# Altium footprint library ARM board1.PcbLib: 27 footprints (part 2 of 2)
Each footprint in its own frame and in the unit in brackets; x right, y up, seen from the top. Pads: shape width x height; smd on the part's side, far side on the other; paste and mask are expansions set on the pad; w line width, h text height; cw(c..) or ccw(c..) is an arc to the next point about the centre after c.
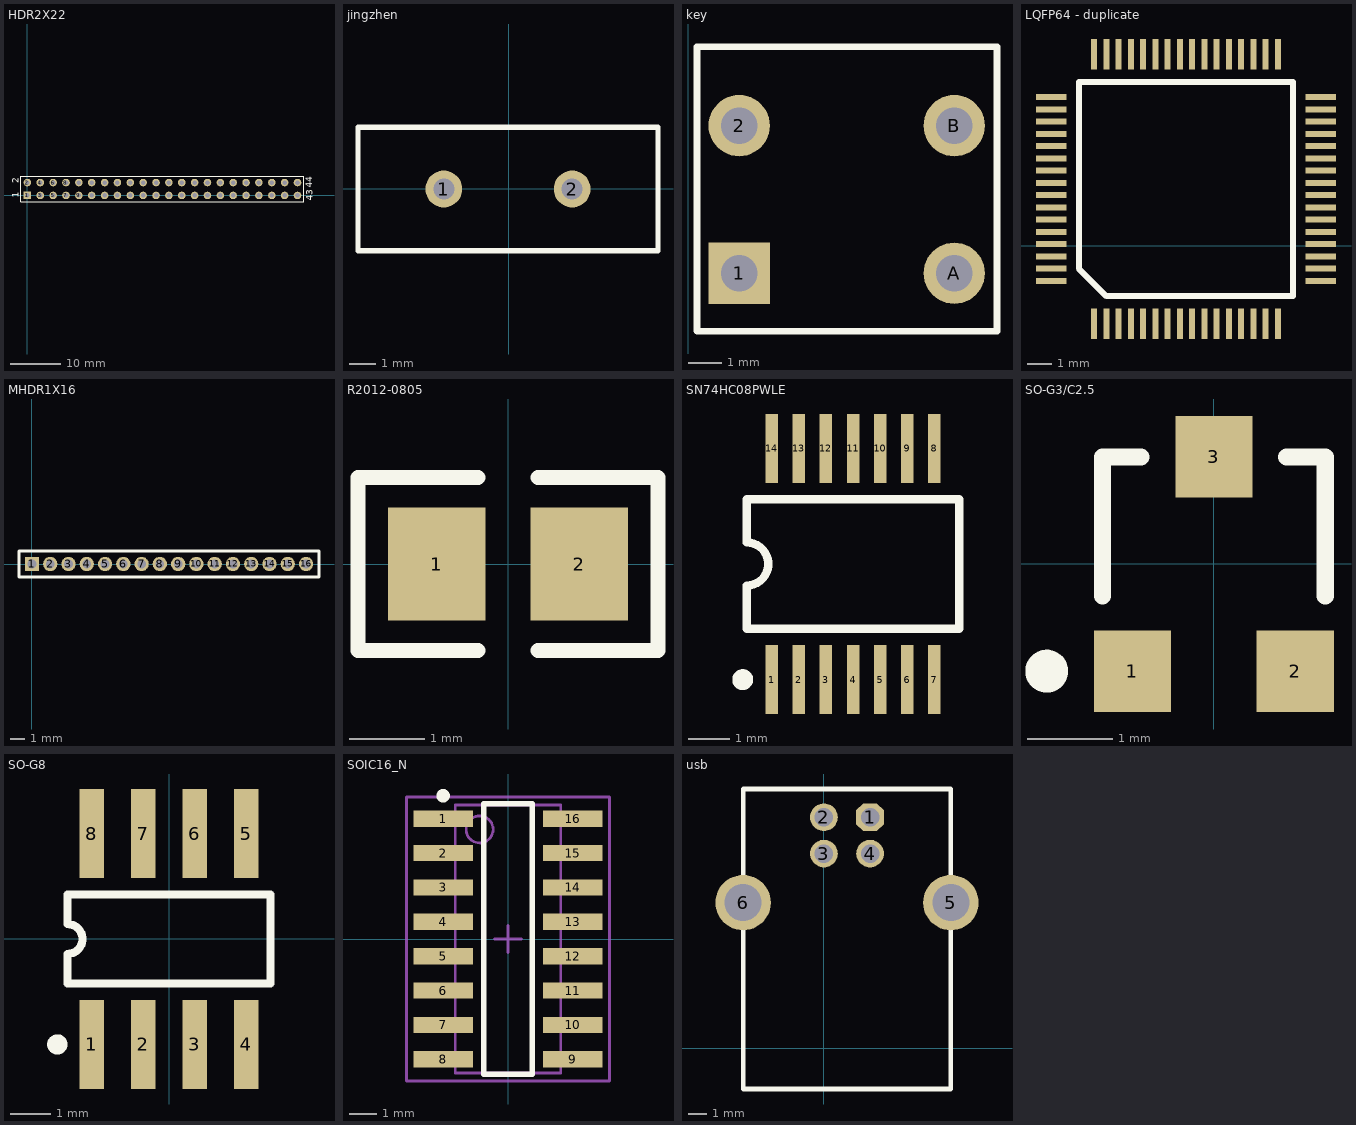
[diagram p1: the footprints below, top view; thin cyan lines are the x and y axes]

## HDR2X22 [mm] "Connector; Header; 22x2 Position"
pads (44):
  rect 1.5x1.5 hole 0.9: 1(0,0)
  round 1.5 hole 0.9: 2(0,2.54) 3(2.54,0) 4(2.54,2.54) 5(5.08,0) 6(5.08,2.54) 7(7.62,0) 8(7.62,2.54) 9(10.16,0) 10(10.16,2.54) 11(12.7,0) 12(12.7,2.54) 13(15.24,0) 14(15.24,2.54) 15(17.78,0) 16(17.78,2.54) 17(20.32,0) 18(20.32,2.54) 19(22.86,0) 20(22.86,2.54) 21(25.4,0) 22(25.4,2.54) 23(27.94,0) 24(27.94,2.54) 25(30.48,0) 26(30.48,2.54) 27(33.02,0) 28(33.02,2.54) 29(35.56,0) 30(35.56,2.54) 31(38.1,0) 32(38.1,2.54) 33(40.64,0) 34(40.64,2.54) 35(43.18,0) 36(43.18,2.54) 37(45.72,0) 38(45.72,2.54) 39(48.26,0) 40(48.26,2.54) 41(50.8,0) 42(50.8,2.54) 43(53.34,0) 44(53.34,2.54)
Top Overlay:
  lines w0.2: -1.27,-1.27 -1.27,3.81 54.61,3.81 54.61,-1.27 -1.27,-1.27
  text "43" at 56.314,-1.084 h1.27
  text "44" at 56.278,1.512 h1.27
  text "1" at -1.661,-0.44 h1.27
  text "2" at -1.661,2.383 h1.27

## jingzhen [mm]
height 4
pads (2):
  round 1.4 hole 0.8: 1(-2.476,-0.008) 2(2.404,-0.008)
Top Overlay:
  lines w0.2: -5.736,-2.358 5.664,-2.358 5.664,2.342 -5.736,2.342 -5.736,-2.358

## key [mm]
pads (4):
  rect 1.85x1.85 hole 1.1: 1(1.537,8.02)
  round 1.85 hole 1.1: 2(1.537,12.465) A(8.014,8.02) B(8.014,12.465)
Top Overlay:
  lines w0.2: 0.267,6.28 0.267,14.84 9.3,14.839 9.3,6.273 0.267,6.28

## LQFP64 - duplicate [mil]
pads (64):
  rect 10x50 smd: 1(848.22,-127.07) 2(868.22,-127.07) 3(888.22,-127.07) 4(908.22,-127.07) 5(928.22,-127.07) 6(948.22,-127.07) 7(968.22,-127.07) 8(988.22,-127.07) 9(1008.22,-127.07) 10(1028.22,-127.07) 11(1048.22,-127.07) 12(1068.22,-127.07) 13(1088.22,-127.07) 14(1108.22,-127.07) 15(1128.22,-127.07) 16(1148.22,-127.07) 33(1148.22,312.93) 34(1128.22,312.93) 35(1108.22,312.93) 36(1088.22,312.93) 37(1068.22,312.93) 38(1048.22,312.93) 39(1028.22,312.93) 40(1008.22,312.93) 41(988.22,312.93) 42(968.22,312.93) 43(948.22,312.93) 44(928.22,312.93) 45(908.22,312.93) 46(888.22,312.93) 47(868.22,312.93) 48(848.22,312.93)
  rect 50x10 smd: 17(1218.22,-57.07) 18(1218.22,-37.07) 19(1218.22,-17.07) 20(1218.22,2.93) 21(1218.22,22.93) 22(1218.22,42.93) 23(1218.22,62.93) 24(1218.22,82.93) 25(1218.22,102.93) 26(1218.22,122.93) 27(1218.22,142.93) 28(1218.22,162.93) 29(1218.22,182.93) 30(1218.22,202.93) 31(1218.22,222.93) 32(1218.22,242.93) 49(778.22,242.93) 50(778.22,222.93) 51(778.22,202.93) 52(778.22,182.93) 53(778.22,162.93) 54(778.22,142.93) 55(778.22,122.93) 56(778.22,102.93) 57(778.22,82.93) 58(778.22,62.93) 59(778.22,42.93) 60(778.22,22.93) 61(778.22,2.93) 62(778.22,-17.07) 63(778.22,-37.07) 64(778.22,-57.07)
Top Overlay:
  lines w10: 823.22,-37.07 823.22,267.93 1173.22,267.93 1173.22,-82.07 868.22,-82.07 823.22,-37.07

## MHDR1X16 [mm] "Connector; Header; 16 Position"
pads (16):
  rect 1x1 hole 0.6: 1(0,0)
  round 1 hole 0.6: 2(1.27,0) 3(2.54,0) 4(3.81,0) 5(5.08,0) 6(6.35,0) 7(7.62,0) 8(8.89,0) 9(10.16,0) 10(11.43,0) 11(12.7,0) 12(13.97,0) 13(15.24,0) 14(16.51,0) 15(17.78,0) 16(19.05,0)
Top Overlay:
  lines w0.2: -0.9,-0.9 -0.9,0.9 19.95,0.9 19.95,-0.9 -0.9,-0.9

## R2012-0805 [mm] "Thermistor; 2 Leads"
pads (2):
  rect 1.3x1.5 smd: 1(-0.95,0) 2(0.95,0)
Top Overlay:
  lines w0.2: -0.4,-1.15 -2,-1.15 -2,1.15 -0.4,1.15 ; 0.4,-1.15 2,-1.15 2,1.15 0.4,1.15

## SN74HC08PWLE [mm]
pads (14):
  rect 0.3x1.65 smd: 1(-745.799,-810.4) 2(-745.149,-810.4) 3(-744.499,-810.4) 4(-743.849,-810.4) 5(-743.199,-810.4) 6(-742.549,-810.4) 7(-741.899,-810.4) 8(-741.899,-804.85) 9(-742.549,-804.85) 10(-743.199,-804.85) 11(-743.849,-804.85) 12(-744.499,-804.85) 13(-745.149,-804.85) 14(-745.799,-804.85)
Top Overlay:
  circle w0.25: c-746.499,-810.4 r0.125
  lines w0.2: -746.399,-809.175 -746.399,-808.142 ccw(c-746.399,-807.625) -746.399,-807.108 -746.399,-806.075 -741.299,-806.075 -741.299,-809.175 -746.399,-809.175

## SO-G3/C2.5 [mm] "SOT-23; 3 Leads; Body 3.0 x 2.6 mm, inc. leads (LxW max)"
pads (3):
  rect 0.9x0.95 smd: 1(-0.95,-1.25) 2(0.95,-1.25) 3(0,1.25)
Top Overlay:
  circle w0.25: c-1.95,-1.25 r0.125
  lines w0.2: -1.3,-0.375 -1.3,1.25 -0.85,1.25 ; 0.85,1.25 1.3,1.25 1.3,-0.375

## SO-G8 [mm] "Small Outline; 8 Leads; Body Width 3.9 mm; Pitch 1.27 mm"
height 1.75
pads (8):
  rect 0.6x2.2 smd: 1(-1.905,-2.6) 2(-0.635,-2.6) 3(0.635,-2.6) 4(1.905,-2.6) 5(1.905,2.6) 6(0.635,2.6) 7(-0.635,2.6) 8(-1.905,2.6)
Top Overlay:
  circle w0.25: c-2.755,-2.6 r0.125
  lines w0.2: -2.5,-0.367 -2.5,-1.1 2.5,-1.1 2.5,1.1 -2.5,1.1 -2.5,0.367 ; -2.5,-0.367 ccw(c-2.5,0) -2.5,0.367

## SOIC16_N [mm] "SOIC, 16-Leads, Body 9.9x3.9mm, Pitch 1.27mm, IPC Medium Density"
height 1.91
pads (16):
  rect 2.2x0.6 smd: 1(-2.4,4.445) 2(-2.4,3.175) 3(-2.4,1.905) 4(-2.4,0.635) 5(-2.4,-0.635) 6(-2.4,-1.905) 7(-2.4,-3.175) 8(-2.4,-4.445) 9(2.4,-4.445) 10(2.4,-3.175) 11(2.4,-1.905) 12(2.4,-0.635) 13(2.4,0.635) 14(2.4,1.905) 15(2.4,3.175) 16(2.4,4.445)
Top Overlay:
  circle w0.25: c-2.4,5.295 r0.125
  lines w0.2: -0.9,-5 -0.9,5 0.9,5 0.9,-5 -0.9,-5
Mechanical 13:
  circle w0.1: c-1.05,4.05 r0.5
  lines w0.1: -1.95,-4.95 -1.95,4.95 1.95,4.95 1.95,-4.95 -1.95,-4.95
Mechanical 15:
  lines w0.1: -0.5,0 0.5,0 ; 0,-0.5 0,0.5 ; -3.75,-5.25 -3.75,5.25 3.75,5.25 3.75,-5.25 -3.75,-5.25
3D body: height 1.91, standoff 0, extent -1.95,-4.95 1.95,4.95

## usb [mil]
pads (6):
  oct 60x60 hole 40: 1(99.98,500.85)
  round 60 hole 40: 2(-0.02,500.85) 3(-0.02,422.11) 4(99.98,422.11)
  round 120 hole 80: 5(274.98,315.81) 6(-175.02,315.81)
Top Overlay:
  lines w10: -175.02,-87.89 -175.02,562.11 274.98,562.11 274.98,-87.89 -175.02,-87.89